# EAGLE library part 6U_FLAT_PANEL (library NewSDR)
6U Width Board with Edge Connector for Samtec HSC8-40 and Extruded Panels
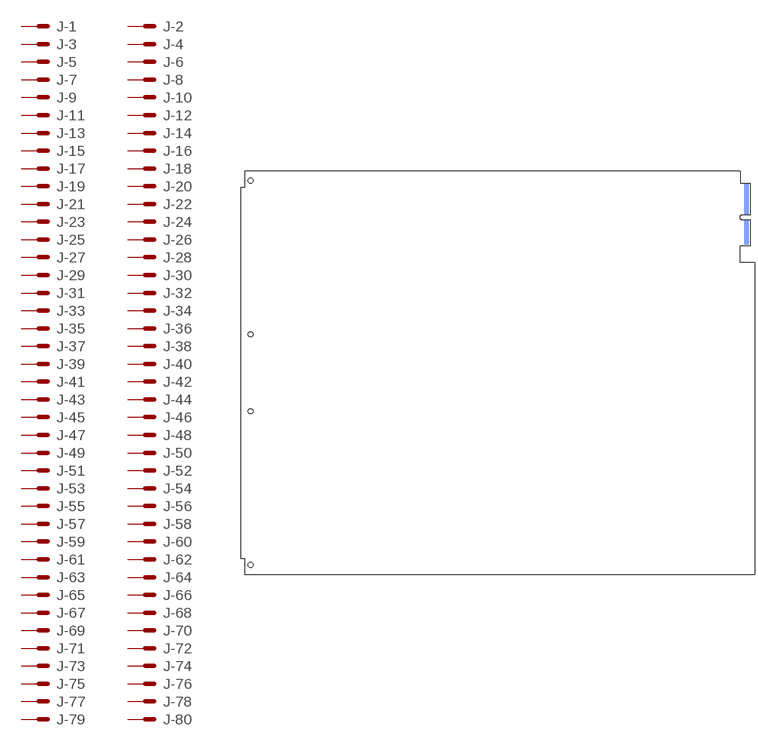
[diagram p145: symbol with the pads of 6U_EXTRUD_PANEL; footprint 6U_EXTRUD_PANEL]

Designator prefix J; gates -1=MS -2=MS -3=MS -4=MS -5=MS -6=MS -7=MS -8=MS -9=MS -10=MS -11=MS -12=MS -13=MS -14=MS -15=MS -16=MS -17=MS -18=MS -19=MS -20=MS -21=MS -22=MS -23=MS -24=MS -25=MS -26=MS -27=MS -28=MS -29=MS -30=MS -31=MS -32=MS -33=MS -34=MS -35=MS -36=MS -37=MS -38=MS -39=MS -40=MS -41=MS -42=MS -43=MS -44=MS -45=MS -46=MS -47=MS -48=MS -49=MS -50=MS -51=MS -52=MS -53=MS -54=MS -55=MS -56=MS -57=MS -58=MS -59=MS -60=MS -61=MS -62=MS -63=MS -64=MS -65=MS -66=MS -67=MS -68=MS -69=MS -70=MS -71=MS -72=MS -73=MS -74=MS -75=MS -76=MS -77=MS -78=MS -79=MS -80=MS

## 6U_FLAT_PANEL  [6U_EXTRUD_PANEL]
1  -1:MS  pas
2  -2:MS  pas
3  -3:MS  pas
4  -4:MS  pas
5  -5:MS  pas
6  -6:MS  pas
7  -7:MS  pas
8  -8:MS  pas
9  -9:MS  pas
10  -10:MS  pas
11  -11:MS  pas
12  -12:MS  pas
13  -13:MS  pas
14  -14:MS  pas
15  -15:MS  pas
16  -16:MS  pas
17  -17:MS  pas
18  -18:MS  pas
19  -19:MS  pas
20  -20:MS  pas
21  -21:MS  pas
22  -22:MS  pas
23  -23:MS  pas
24  -24:MS  pas
25  -25:MS  pas
26  -26:MS  pas
27  -27:MS  pas
28  -28:MS  pas
29  -29:MS  pas
30  -30:MS  pas
31  -31:MS  pas
32  -32:MS  pas
33  -33:MS  pas
34  -34:MS  pas
35  -35:MS  pas
36  -36:MS  pas
37  -37:MS  pas
38  -38:MS  pas
39  -39:MS  pas
40  -40:MS  pas
41  -41:MS  pas
42  -42:MS  pas
43  -43:MS  pas
44  -44:MS  pas
45  -45:MS  pas
46  -46:MS  pas
47  -47:MS  pas
48  -48:MS  pas
49  -49:MS  pas
50  -50:MS  pas
51  -51:MS  pas
52  -52:MS  pas
53  -53:MS  pas
54  -54:MS  pas
55  -55:MS  pas
56  -56:MS  pas
57  -57:MS  pas
58  -58:MS  pas
59  -59:MS  pas
60  -60:MS  pas
61  -61:MS  pas
62  -62:MS  pas
63  -63:MS  pas
64  -64:MS  pas
65  -65:MS  pas
66  -66:MS  pas
67  -67:MS  pas
68  -68:MS  pas
69  -69:MS  pas
70  -70:MS  pas
71  -71:MS  pas
72  -72:MS  pas
73  -73:MS  pas
74  -74:MS  pas
75  -75:MS  pas
76  -76:MS  pas
77  -77:MS  pas
78  -78:MS  pas
79  -79:MS  pas
80  -80:MS  pas

## Footprint 6U_EXTRUD_PANEL (pad centres in mm)
LONE STAR TRX BOARD
smd 2.6 x 0.55 bottom: 1 290.487,225.404; 3 290.487,224.604; 5 290.487,223.804; 7 290.487,223.004; 9 290.487,222.204; 11 290.487,221.404; 13 290.487,220.604; 15 290.487,219.804; 17 290.487,219.004; 19 290.487,218.204; 21 290.487,217.404; 23 290.487,216.604; 25 290.487,215.804; 27 290.487,215.004; 29 290.487,214.204; 31 290.487,213.404; 33 290.487,212.604; 35 290.487,211.804; 37 290.487,211.004; 39 290.487,210.204; 41 290.487,209.404; 43 290.487,208.604; 45 290.487,204.604; 47 290.487,203.804; 49 290.487,203.004; 51 290.487,202.204; 53 290.487,201.404; 55 290.487,200.604; 57 290.487,199.804; 59 290.487,199.004; 61 290.487,198.204; 63 290.487,197.404; 65 290.487,196.604; 67 290.487,195.804; 69 290.487,195.004; 71 290.487,194.204; 73 290.487,193.404; 75 290.487,192.604; 77 290.487,191.804; 79 290.487,191.004
smd 2.6 x 0.55: 2 290.487,225.404; 4 290.487,224.604; 6 290.487,223.804; 8 290.487,223.004; 10 290.487,222.204; 12 290.487,221.404; 14 290.487,220.604; 16 290.487,219.804; 18 290.487,219.004; 20 290.487,218.204; 22 290.487,217.404; 24 290.487,216.604; 26 290.487,215.804; 28 290.487,215.004; 30 290.487,214.204; 32 290.487,213.404; 34 290.487,212.604; 36 290.487,211.804; 38 290.487,211.004; 40 290.487,210.204; 42 290.487,209.404; 44 290.487,208.604; 46 290.487,204.604; 48 290.487,203.804; 50 290.487,203.004; 52 290.487,202.204; 54 290.487,201.404; 56 290.487,200.604; 58 290.487,199.804; 60 290.487,199.004; 62 290.487,198.204; 64 290.487,197.404; 66 290.487,196.604; 68 290.487,195.804; 70 290.487,195.004; 72 290.487,194.204; 74 290.487,193.404; 76 290.487,192.604; 78 290.487,191.804; 80 290.487,191.004
hole 2.7 at 3.56,5.55
hole 2.7 at 3.56,94.45
hole 2.7 at 3.56,227.8
hole 2.7 at 3.56,138.9